# Altium footprint library PCB1_corrosao.PcbLib: 25 footprints (part 1 of 2)
Each footprint in its own frame and in the unit in brackets; x right, y up, seen from the top. Pads: shape width x height; smd on the part's side, far side on the other; paste and mask are expansions set on the pad; w line width, h text height; cw(c..) or ccw(c..) is an arc to the next point about the centre after c.
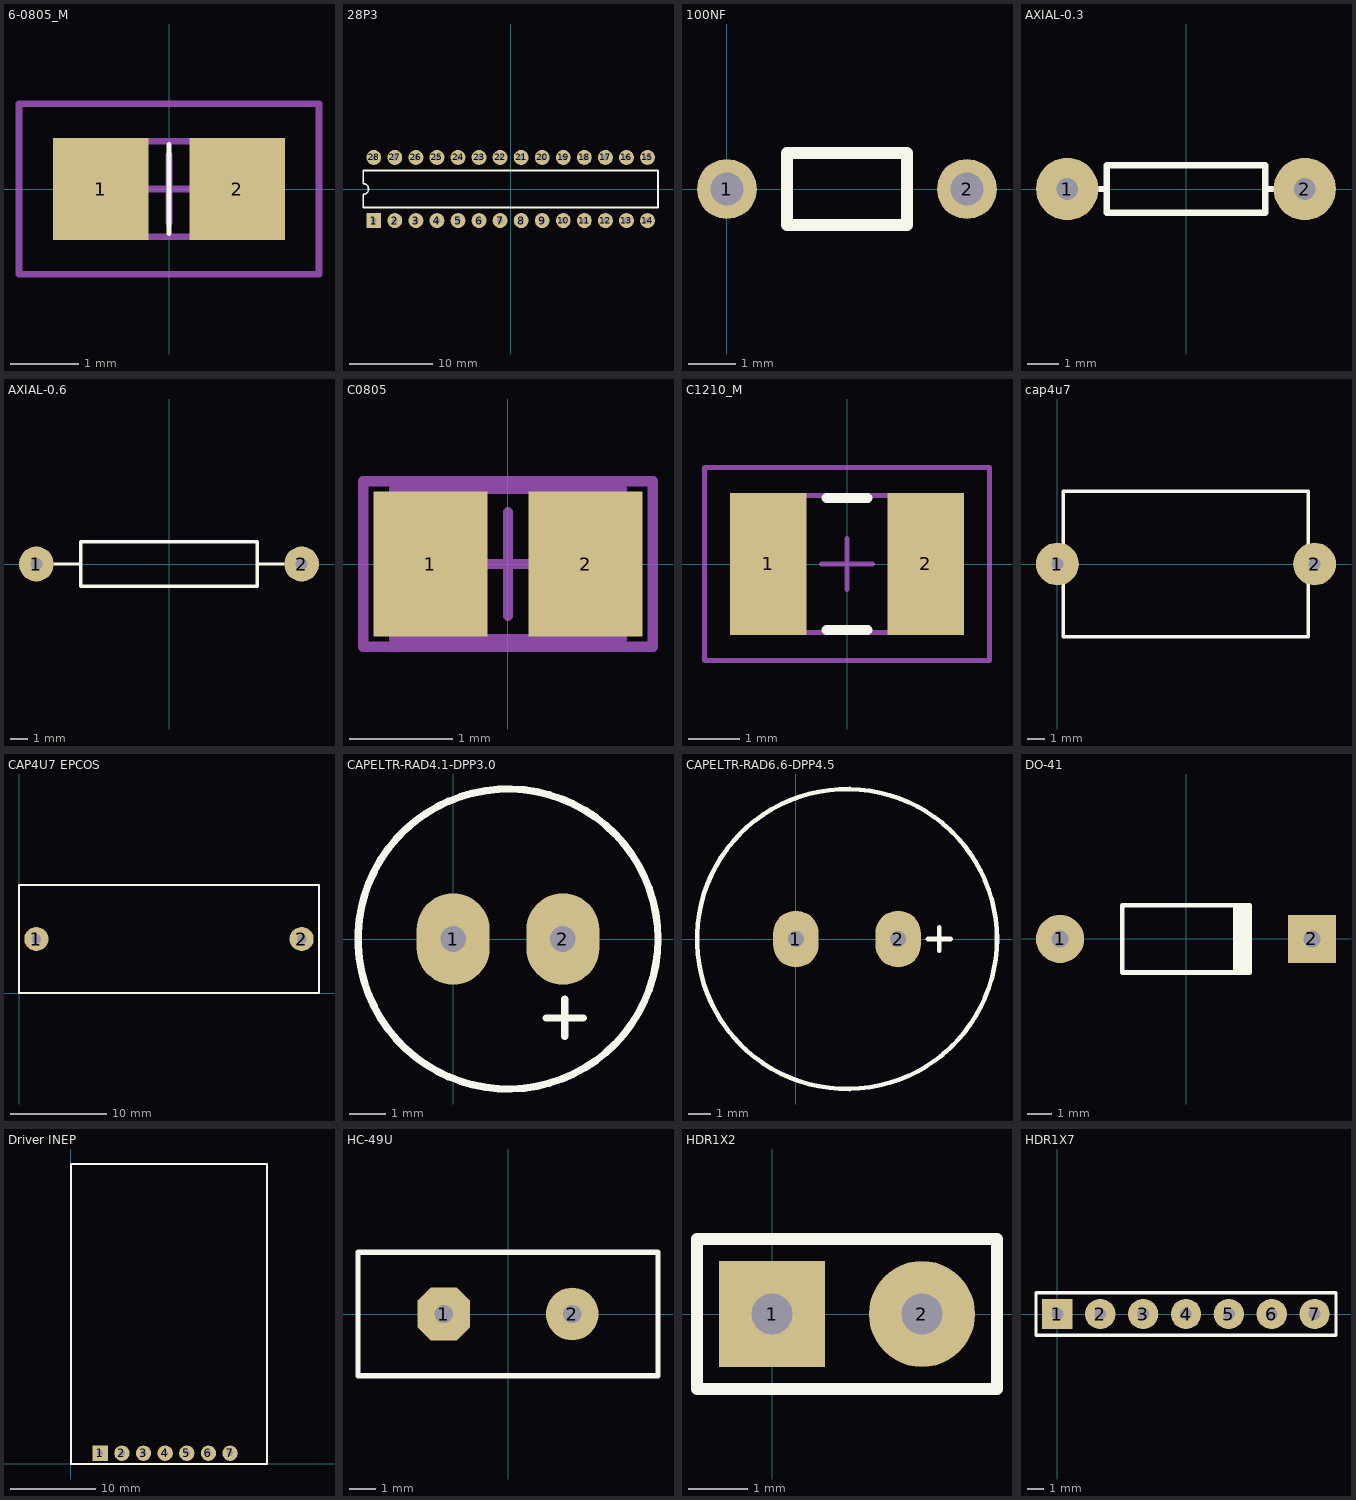
[diagram p0: the footprints below, top view; thin cyan lines are the x and y axes]

## 6-0805_M [mm] "Chip Resistor, Body 2.0x1.2mm, IPC Low Density"
height 0.7
pads (2):
  rect 1.4x1.5 smd: 1(-1,0) 2(1,0)
Top Overlay:
  lines w0.076: 0,-0.65 0,0.65
Mechanical 13:
  lines w0.1: -1.075,-0.7 -1.075,0.7 1.075,0.7 1.075,-0.7 -1.075,-0.7
Mechanical 15:
  lines w0.1: -0.5,0 0.5,0 ; 0,-0.5 0,0.5 ; -2.2,-1.25 -2.2,1.25 2.2,1.25 2.2,-1.25 -2.2,-1.25
3D body: height 0.7, standoff 0, extent -1.075,-0.7 1.075,0.7

## 28P3 [mm] "DIP; 28 Leads; Row Spacing 7.62 mm; Pitch 2.54 mm"
height 4.58
pads (28):
  rect 1.8x1.8 hole 0.7: 1(-16.51,-3.81)
  round 1.8 hole 0.7: 2(-13.97,-3.81) 3(-11.43,-3.81) 4(-8.89,-3.81) 5(-6.35,-3.81) 6(-3.81,-3.81) 7(-1.27,-3.81) 8(1.27,-3.81) 9(3.81,-3.81) 10(6.35,-3.81) 11(8.89,-3.81) 12(11.43,-3.81) 13(13.97,-3.81) 14(16.51,-3.81) 15(16.51,3.81) 16(13.97,3.81) 17(11.43,3.81) 18(8.89,3.81) 19(6.35,3.81) 20(3.81,3.81) 21(1.27,3.81) 22(-1.27,3.81) 23(-3.81,3.81) 24(-6.35,3.81) 25(-8.89,3.81) 26(-11.43,3.81) 27(-13.97,3.81) 28(-16.51,3.81)
Top Overlay:
  lines w0.2: -17.78,-2.225 17.78,-2.225 17.78,2.225 -17.78,2.225 -17.78,0.635 cw(c-17.78,0) -17.78,-0.635 -17.78,-2.225

## 100NF [mm]
pads (2):
  round 1.27 hole 0.7: 1(0,0) 2(5.08,0)
Top Overlay:
  lines w0.254: 1.27,-0.762 1.27,0.762 3.81,0.762 3.81,-0.762 1.27,-0.762

## AXIAL-0.3 [mm] "Axial Device, Thru-Hole; 2 Leads; 0.3 in Pin Spacing"
height 1.524
pads (2):
  round 2 hole 0.7: 1(-3.81,0) 2(3.81,0)
Top Overlay:
  lines w0.2: -2.769,0 -2.54,0 ; 2.769,0 2.54,0 ; 2.54,0 2.54,0.762 -2.54,0.762 -2.54,-0.762 2.54,-0.762 2.54,0

## AXIAL-0.6 [mm] "Axial Device, Thru-Hole; 2 Leads; 0.6 in Pin Spacing"
height 2.54
pads (2):
  round 2 hole 0.7: 1(-7.62,0) 2(7.62,0)
Top Overlay:
  lines w0.2: -6.604,0 -5.08,0 ; 5.08,0 6.604,0 ; -5.08,-1.27 5.08,-1.27 5.08,1.27 -5.08,1.27 -5.08,-1.27

## C0805 [mm] "Chip Capacitor, Body 2.0x1.3mm, IPC High Density"
height 1.4
pads (2):
  rect 1.1x1.4 smd: 1(-0.75,0) 2(0.75,0)
Mechanical 13:
  lines w0.1: -1.1,-0.725 1.1,-0.725 1.1,0.725 -1.1,0.725 -1.1,-0.725
Mechanical 15:
  lines w0.1: -0.5,0 0.5,0 ; 0,-0.5 0,0.5 ; -1.4,-0.8 1.4,-0.8 1.4,0.8 -1.4,0.8 -1.4,-0.8
3D body: height 1.4, standoff 0, extent -1.1,-0.725 1.1,0.725

## C1210_M [mm] "Chip Capacitor, Body 3.2x2.5mm, IPC Low Density"
height 1.5
pads (2):
  rect 1.5x2.8 smd: 1(-1.55,0) 2(1.55,0)
Top Overlay:
  lines w0.2: -0.4,-1.3 0.4,-1.3 ; -0.4,1.3 0.4,1.3
Mechanical 13:
  lines w0.1: -1.7,-1.35 1.7,-1.35 1.7,1.35 -1.7,1.35 -1.7,-1.35
Mechanical 15:
  lines w0.1: -0.5,0 0.5,0 ; 0,-0.5 0,0.5 ; -2.8,-1.9 2.8,-1.9 2.8,1.9 -2.8,1.9 -2.8,-1.9
3D body: height 1.5, standoff 0, extent -1.7,-1.35 1.7,1.35

## cap4u7 [mm]
pads (2):
  round 2.5 hole 0.7: 1(0,0) 2(15,0)
Top Overlay:
  lines w0.2: 0.347,-4.25 0.347,4.25 ; 0.361,-4.25 6.511,-4.25 ; 0.361,4.25 6.511,4.25 ; 2.647,-4.25 8.797,-4.25 ; 4.679,4.25 10.829,4.25 ; 6.203,-4.25 12.353,-4.25 ; 8.489,-4.25 14.639,-4.25 14.639,4.25 8.489,4.25

## CAP4U7 EPCOS [mm]
pads (2):
  round 2.5 hole 1: 1(1.8,5.6) 2(29.3,5.6)
Top Overlay:
  lines w0.2: 0,0 31.1,0 31.1,11.2 0,11.2 0,0

## CAPELTR-RAD4.1-DPP3.0 [mm] "Capacitor Eletrolitico Radial 4.1mm com 3.0mm entre pinos"
height 14.5
pads (2):
  oval 2x2.5 hole 0.7: 1(0,0) 2(3,0)
Top Overlay:
  circle w0.2: c1.5,0 r4.1
  lines w0.2: 2.54,-2.159 3.556,-2.159 ; 3.048,-2.667 3.048,-1.651

## CAPELTR-RAD6.6-DPP4.5 [mm] "Capacitor Eletrolitico Radial 6.6mm com 4.5mm entre pinos"
height 26
pads (2):
  oval 2x2.5 hole 0.7: 1(0,0) 2(4.5,0)
Top Overlay:
  circle w0.2: c2.25,0 r6.6
  lines w0.2: 5.802,0 6.818,0 ; 6.31,-0.508 6.31,0.508

## DO-41 [mm] "Diode, Axial; Body 5.2 x 2.7 mm (LxDia. max), Lead Dia. 0.86 mm (max)"
height 2.8
pads (2):
  round 2 hole 0.7: 1(-5.23,0)
  rect 2x2 hole 0.7: 2(5.23,0)
Top Overlay:
  rectangle: 1.95,-1.406 2.75,1.394
  lines w0.2: 2.65,-1.4 -2.65,-1.4 -2.65,1.4 2.65,1.4

## Driver INEP [mm] "Connector; Header; 7 Position"
pads (7):
  rect 1.8x1.8 hole 0.7: 1(3.429,1.27)
  round 1.8 hole 0.7: 2(5.969,1.27) 3(8.509,1.27) 4(11.049,1.27) 5(13.589,1.27) 6(16.129,1.27) 7(18.669,1.27)
Top Overlay:
  lines w0.2: 0,0 23,0 23,35.2 0,35.2 0,0

## HC-49U [mm] "Quartz Crystal, Thru-Hole; 2 Leads; Body 11.35 x 4.65 x 13.46 mm (LxWxH max)"
height 13.46
pads (2):
  oct 2x2 hole 0.7: 1(-2.44,0)
  round 2 hole 0.7: 2(2.44,0)
Top Overlay:
  lines w0.2: -5.7,-2.35 -5.7,2.35 5.7,2.35 5.7,-2.35 -5.7,-2.35

## HDR1X2 [mm] "Connector; Header; 2 Position"
pads (2):
  rect 1.8x1.8 hole 0.7: 1(0,0)
  round 1.8 hole 0.7: 2(2.54,0)
Top Overlay:
  lines w0.2: -1.27,-1.27 3.81,-1.27 3.81,1.27 -1.27,1.27 -1.27,-1.27

## HDR1X7 [mm] "Connector; Header; 7 Position"
pads (7):
  rect 1.8x1.8 hole 0.7: 1(0,0)
  round 1.8 hole 0.7: 2(2.54,0) 3(5.08,0) 4(7.62,0) 5(10.16,0) 6(12.7,0) 7(15.24,0)
Top Overlay:
  lines w0.2: -1.27,-1.27 16.51,-1.27 16.51,1.27 -1.27,1.27 -1.27,-1.27